# EAGLE library part 4POWER_8SIGNAL (library WallerLabLib)
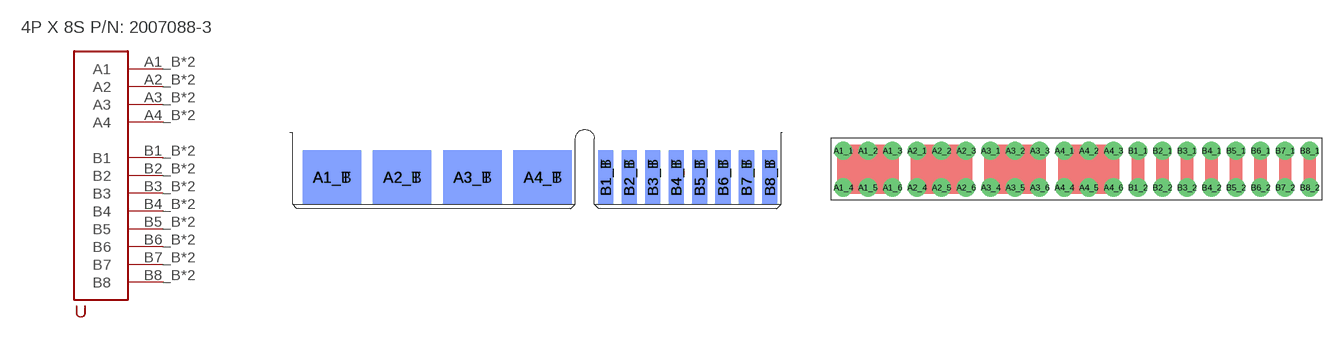
[diagram p16: symbol with the pads of 4POWER_8SIGNAL; footprints 4POWER_8SIGNAL, 4POWER_8SIGNAL_MOUNT]

Designator prefix -

## 4POWER_8SIGNALMATING_BOARD  [4POWER_8SIGNAL]
A1_B  A1
A1_T  A1
A2_B  A2
A2_T  A2
A3_B  A3
A3_T  A3
A4_B  A4
A4_T  A4
B1_B  B1
B1_T  B1
B2_B  B2
B2_T  B2
B3_B  B3
B3_T  B3
B4_B  B4
B4_T  B4
B5_B  B5
B5_T  B5
B6_B  B6
B6_T  B6
B7_B  B7
B7_T  B7
B8_B  B8
B8_T  B8

## 4POWER_8SIGNALMOUNTING_BOARD  [4POWER_8SIGNAL_MOUNT]
A1_1  A1
A1_2  A1
A1_3  A1
A1_4  A1
A1_5  A1
A1_6  A1
A2_1  A2
A2_2  A2
A2_3  A2
A2_4  A2
A2_5  A2
A2_6  A2
A3_1  A3
A3_2  A3
A3_3  A3
A3_4  A3
A3_5  A3
A3_6  A3
A4_1  A4
A4_2  A4
A4_3  A4
A4_4  A4
A4_5  A4
A4_6  A4
B1_1  B1
B1_2  B1
B2_1  B2
B2_2  B2
B3_1  B3
B3_2  B3
B4_1  B4
B4_2  B4
B5_1  B5
B5_2  B5
B6_1  B6
B6_2  B6
B7_1  B7
B7_2  B7
B8_1  B8
B8_2  B8

## Footprint 4POWER_8SIGNAL (pad centres in mm)
smd 6.35 x 5.842 bottom: A1_B -27.432,-0.381; A2_B -19.812,-0.381; A3_B -12.192,-0.381; A4_B -4.572,-0.381
smd 6.35 x 5.842: A1_T -27.432,-0.381; A2_T -19.812,-0.381; A3_T -12.192,-0.381; A4_T -4.572,-0.381
smd 1.651 x 5.842 bottom: B1_B 2.261,-0.381; B2_B 4.801,-0.381; B3_B 7.366,-0.381; B4_B 9.906,-0.381; B5_B 12.446,-0.381; B6_B 14.986,-0.381; B7_B 17.526,-0.381; B8_B 20.066,-0.381
smd 1.651 x 5.842: B1_T 2.261,-0.381; B2_T 4.801,-0.381; B3_T 7.366,-0.381; B4_T 9.906,-0.381; B5_T 12.446,-0.381; B6_T 14.986,-0.381; B7_T 17.526,-0.381; B8_T 20.066,-0.381

## Footprint 4POWER_8SIGNAL_MOUNT (pad centres in mm)
drill 1.27: A1_1 -24.13,1.27; A1_2 -21.59,1.27; A1_3 -19.05,1.27; A1_4 -24.13,-2.54; A1_5 -21.59,-2.54; A1_6 -19.05,-2.54; A2_1 -16.51,1.27; A2_2 -13.97,1.27; A2_3 -11.43,1.27; A2_4 -16.51,-2.54; A2_5 -13.97,-2.54; A2_6 -11.43,-2.54; A3_1 -8.89,1.27; A3_2 -6.35,1.27; A3_3 -3.81,1.27; A3_4 -8.89,-2.54; A3_5 -6.35,-2.54; A3_6 -3.81,-2.54; A4_1 -1.27,1.27; A4_2 1.27,1.27; A4_3 3.81,1.27; A4_4 -1.27,-2.54; A4_5 1.27,-2.54; A4_6 3.81,-2.54; B1_1 6.35,1.27; B1_2 6.35,-2.54; B2_1 8.89,1.27; B2_2 8.89,-2.54; B3_1 11.43,1.27; B3_2 11.43,-2.54; B4_1 13.97,1.27; B4_2 13.97,-2.54; B5_1 16.51,1.27; B5_2 16.51,-2.54; B6_1 19.05,1.27; B6_2 19.05,-2.54; B7_1 21.59,1.27; B7_2 21.59,-2.54; B8_1 24.13,1.27; B8_2 24.13,-2.54